# EAGLE library part 613018216921 (library Eagle_BOARD-TO-BOARD_CONNECTORS (rev18b))
WR-PHD 2.54mm Dual S. Header Bottom Entry Large, 18 Pins=>Code : Con_BTB_SHD_2.54_2_613018216921 <http://katalog.we-online.de/media/images/eican/Con_BTB_SHD_2.54_2_6130xx216921_pf2.jpg> Details see: http://katalog.we-online.de/en/em/613_0xx_216_921 Created 2014-05-30, Karrer Zheng 2014 (C) Würth Elektronik
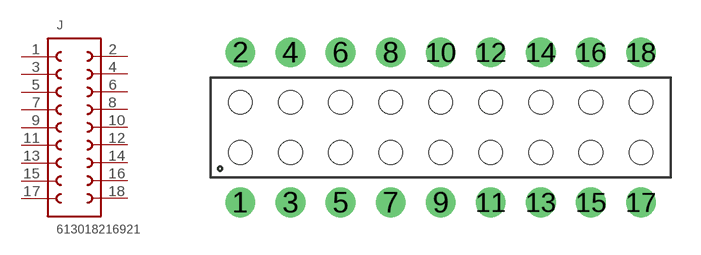
[diagram p169: symbol with the pads of 613018216921; footprint 613018216921]

Designator prefix J

## 613018216921  [613018216921]
1  1  pas
2  18  pas
3  2  pas
4  17  pas
5  3  pas
6  16  pas
7  4  pas
8  15  pas
9  5  pas
10  14  pas
11  6  pas
12  13  pas
13  7  pas
14  12  pas
15  8  pas
16  11  pas
17  9  pas
18  10  pas

## Footprint 613018216921 (pad centres in mm)
WR-PHD 2.54mm Dual S. Header Bottom Entry Large, 18 Pins
drill 1: 1 -10.16,-3.81; 2 -10.16,3.81; 3 -7.62,-3.81; 4 -7.62,3.81; 5 -5.08,-3.81; 6 -5.08,3.81; 7 -2.54,-3.81; 8 -2.54,3.81; 9 0,-3.81; 10 0,3.81; 11 2.54,-3.81; 12 2.54,3.81; 13 5.08,-3.81; 14 5.08,3.81; 15 7.62,-3.81; 16 7.62,3.81; 17 10.16,-3.81; 18 10.16,3.81
hole 1.2 at -10.16,1.27
hole 1.2 at -7.62,1.27
hole 1.2 at -7.62,-1.27
hole 1.2 at -10.16,-1.27
hole 1.2 at -5.08,1.27
hole 1.2 at -5.08,-1.27
hole 1.2 at -2.54,-1.27
hole 1.2 at -2.54,1.27
hole 1.2 at 0,1.27
hole 1.2 at 0,-1.27
hole 1.2 at 2.54,-1.27
hole 1.2 at 2.54,1.27
hole 1.2 at 5.08,1.27
hole 1.2 at 7.62,1.27
hole 1.2 at 5.08,-1.27
hole 1.2 at 7.62,-1.27
hole 1.2 at 10.16,1.27
hole 1.2 at 10.16,-1.27